# Altium schematic symbol library R1.SCHLIB: 10 symbols
Pins are listed as number, name and electrical type; pins without a type are passive.

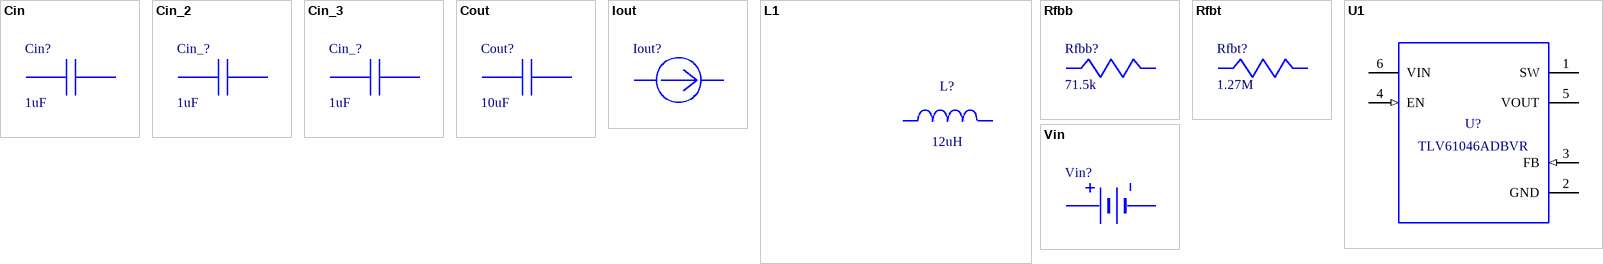
[diagram p0: symbols Cin to Vin]

## Cin
designator Cin?, comment value 1uF  (hidden comment: C0603C105K8PACTU)
Manufacturer Name: Kemet; PackageReference: C0603C105K8PACTU; Manufacturer Part Number: C0603C105K8PACTU
pins: 1, 2

## Cin_2
designator Cin_?, comment value 1uF  (hidden comment: C0603C105K8PACTU)
Manufacturer Name: Kemet; PackageReference: C0603C105K8PACTU; Manufacturer Part Number: C0603C105K8PACTU
pins: 1, 2

## Cin_3
designator Cin_?, comment value 1uF  (hidden comment: C0603C105K8PACTU)
Manufacturer Name: Kemet; PackageReference: C0603C105K8PACTU; Manufacturer Part Number: C0603C105K8PACTU
pins: 1, 2

## Cout
designator Cout?, comment value 10uF  (hidden comment: CL32B106KBJNNWE)
Manufacturer Name: Samsung Electro-Mechanics; PackageReference: CL32B106KBJNNWE; Manufacturer Part Number: CL32B106KBJNNWE
pins: 1, 2

## Iout
designator Iout?, comment WB_CURRENT_LOAD  (value not drawn)
PackageReference: WB_CURRENT_LOAD; Manufacturer Part Number: WB_CURRENT_LOAD; Manufacturer Name: WB_CURRENT_LOAD; Value: N/A
pins: 1 +, 2 -

## L1
designator L?, comment value 12uH  (hidden comment: NPI43C120MTRF)
Manufacturer Name: NIC Components; PackageReference: NPI43C120MTRF; Manufacturer Part Number: NPI43C120MTRF
pins: 1, 2

## Rfbb
designator Rfbb?, comment value 71.5k  (hidden comment: CRCW040271K5FKED)
Manufacturer Name: Vishay-Dale; PackageReference: CRCW040271K5FKED; Manufacturer Part Number: CRCW040271K5FKED
pins: 1, 2

## Rfbt
designator Rfbt?, comment value 1.27M  (hidden comment: CRCW04021M27FKED)
Manufacturer Name: Vishay-Dale; PackageReference: CRCW04021M27FKED; Manufacturer Part Number: CRCW04021M27FKED
pins: 1, 2

## U1
designator U?, comment TLV61046ADBVR
Manufacturer Name: Texas Instruments; PackageReference: TLV61046ADBVR; Manufacturer Part Number: TLV61046ADBVR; Value: N/A
pins: 1 SW (power), 2 GND (power), 3 FB (in), 4 EN (in), 5 VOUT (power), 6 VIN (power)

## Vin
designator Vin?, comment WB_BATTERY  (value not drawn)
PackageReference: WB_BATTERY; Manufacturer Part Number: WB_BATTERY; Manufacturer Name: WB_BATTERY; Value: N/A
pins: 1 +, 2 -